# Altium footprint library 2019-03-18_22-33-59.PcbLib: 3 footprints
Each footprint in its own frame and in the unit in brackets; x right, y up, seen from the top. Pads: shape width x height; smd on the part's side, far side on the other; paste and mask are expansions set on the pad; w line width, h text height; cw(c..) or ccw(c..) is an arc to the next point about the centre after c.
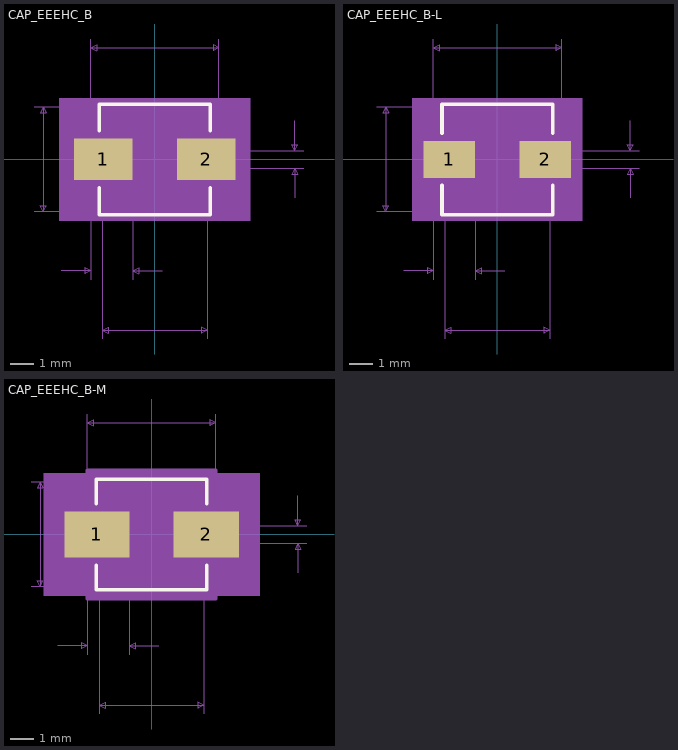
[diagram p0: the footprints below, top view; thin cyan lines are the x and y axes]

## CAP_EEEHC_B [mil]
pads (2):
  rect 99x70 smd paste+0 mask+0: 1(-87,0) 2(87,0)
Top Overlay:
  lines w6: -93.5,-48.1 -93.5,-93.5 93.5,-93.5 93.5,-48.1 ; -93.5,48.1 -93.5,93.5 93.5,93.5 93.5,48.1
Mechanical 5:
  region: 161.5,-103.5 -161.5,-103.5 -161.5,103.5 161.5,103.5
Mechanical 7:
  lines w1: -203.5,-88.5 -88.5,-88.5 -88.5,-303.5 ; -203.5,88.5 -88.5,88.5 ; -158.5,-188.5 -108.5,-188.5 ; -108.5,-203.5 -108.5,-45 ; -108.5,45 -108.5,203.5 ; -37.5,-203.5 -37.5,-25 ; 12.5,-188.5 -37.5,-188.5 ; 88.5,-303.5 88.5,-88.5 ; 108.5,45 108.5,203.5 ; 146.5,-15 251.5,-15 ; 146.5,15 251.5,15 ; 236.5,-65 236.5,-15 ; 236.5,65 236.5,15 ; -188.5,-88.5 -188.5,88.5 ; -188.5,-88.5 -193.5,-78.5 -183.5,-78.5 -188.5,-88.5 ; -188.5,88.5 -193.5,78.5 -183.5,78.5 -188.5,88.5 ; -108.5,-188.5 -118.5,-183.5 -118.5,-193.5 -108.5,-188.5 ; -108.5,188.5 108.5,188.5 ; -108.5,188.5 -98.5,193.5 -98.5,183.5 -108.5,188.5 ; -88.5,-288.5 88.5,-288.5 ; -88.5,-288.5 -78.5,-283.5 -78.5,-293.5 -88.5,-288.5 ; -37.5,-188.5 -27.5,-183.5 -27.5,-193.5 -37.5,-188.5 ; 88.5,-288.5 78.5,-283.5 78.5,-293.5 88.5,-288.5 ; 108.5,188.5 98.5,193.5 98.5,183.5 108.5,188.5 ; 236.5,-15 231.5,-25 241.5,-25 236.5,-15 ; 236.5,15 231.5,25 241.5,25 236.5,15
  text "Default Padstyle: r251_178" at -325,-440 h50
  text "Alternate 1 Padstyle: b152_229h76" at -412.5,-540 h50
  text "Alternate 2 Padstyle: b229_152h76" at -412.5,-640 h50
  text "0.03in/0.762mm" at 256.5,-12.5 h25
  text "0.217in/5.512mm" at -93.75,208.5 h25
  text "0.177in/4.496mm" at -396,-12.5 h25
  text "0.071in/1.803mm" at -166.75,-233.5 h25
  text "0.177in/4.496mm" at -93.75,-333.5 h25
Mechanical 13:
  lines w1: -88.5,-44.25 -44.25,-88.5 ; -88.5,44.25 -44.25,88.5 ; -88.5,-88.5 88.5,-88.5 88.5,88.5 -88.5,88.5 -88.5,-88.5
Mechanical 15:
  region: -98.5,-45 -146.5,-45 -146.5,45 -98.5,45 -98.5,98.5 98.5,98.5 98.5,45 146.5,45 146.5,-45 98.5,-45 98.5,-98.5 -98.5,-98.5
  lines w6: -146.5,-45 -146.5,45 -98.5,45 -98.5,98.5 98.5,98.5 98.5,45 146.5,45 146.5,-45 98.5,-45 98.5,-98.5 -98.5,-98.5 -98.5,-45 -146.5,-45
3D body: height 10, standoff 0, extent 0,0 10,10

## CAP_EEEHC_B-L [mil]
pads (2):
  rect 87x62 smd paste+0 mask+0: 1(-81,0) 2(81,0)
Top Overlay:
  lines w6: -93.5,-44.1 -93.5,-93.5 93.5,-93.5 93.5,-44.1 ; -93.5,44.1 -93.5,93.5 93.5,93.5 93.5,44.1
Mechanical 5:
  region: 143.5,-103.5 -143.5,-103.5 -143.5,103.5 143.5,103.5
Mechanical 7:
  lines w1: -203.5,-88.5 -88.5,-88.5 -88.5,-303.5 ; -203.5,88.5 -88.5,88.5 ; -158.5,-188.5 -108.5,-188.5 ; -108.5,-203.5 -108.5,-41 ; -108.5,41 -108.5,203.5 ; -37.5,-203.5 -37.5,-21 ; 12.5,-188.5 -37.5,-188.5 ; 88.5,-303.5 88.5,-88.5 ; 108.5,41 108.5,203.5 ; 134.5,-15 239.5,-15 ; 134.5,15 239.5,15 ; 224.5,-65 224.5,-15 ; 224.5,65 224.5,15 ; -188.5,-88.5 -188.5,88.5 ; -188.5,-88.5 -193.5,-78.5 -183.5,-78.5 -188.5,-88.5 ; -188.5,88.5 -193.5,78.5 -183.5,78.5 -188.5,88.5 ; -108.5,-188.5 -118.5,-183.5 -118.5,-193.5 -108.5,-188.5 ; -108.5,188.5 108.5,188.5 ; -108.5,188.5 -98.5,193.5 -98.5,183.5 -108.5,188.5 ; -88.5,-288.5 88.5,-288.5 ; -88.5,-288.5 -78.5,-283.5 -78.5,-293.5 -88.5,-288.5 ; -37.5,-188.5 -27.5,-183.5 -27.5,-193.5 -37.5,-188.5 ; 88.5,-288.5 78.5,-283.5 78.5,-293.5 88.5,-288.5 ; 108.5,188.5 98.5,193.5 98.5,183.5 108.5,188.5 ; 224.5,-15 219.5,-25 229.5,-25 224.5,-15 ; 224.5,15 219.5,25 229.5,25 224.5,15
  text "Default Padstyle: r221_157" at -325,-444 h50
  text "Alternate 1 Padstyle: b152_229h76" at -412.5,-544 h50
  text "Alternate 2 Padstyle: b229_152h76" at -412.5,-644 h50
  text "0.03in/0.762mm" at 244.5,-12.5 h25
  text "0.217in/5.512mm" at -93.75,208.5 h25
  text "0.177in/4.496mm" at -396,-12.5 h25
  text "0.071in/1.803mm" at -166.75,-233.5 h25
  text "0.177in/4.496mm" at -93.75,-333.5 h25
Mechanical 13:
  lines w1: -88.5,-44.25 -44.25,-88.5 ; -88.5,44.25 -44.25,88.5 ; -88.5,-88.5 88.5,-88.5 88.5,88.5 -88.5,88.5 -88.5,-88.5
Mechanical 15:
  region: -92.5,-35 -128.5,-35 -128.5,35 -92.5,35 -92.5,92.5 92.5,92.5 92.5,35 128.5,35 128.5,-35 92.5,-35 92.5,-92.5 -92.5,-92.5
  lines w6: -128.5,-35 -128.5,35 -92.5,35 -92.5,92.5 92.5,92.5 92.5,35 128.5,35 128.5,-35 92.5,-35 92.5,-92.5 -92.5,-92.5 -92.5,-35 -128.5,-35
3D body: height 10, standoff 0, extent 0,0 10,10

## CAP_EEEHC_B-M [mil]
pads (2):
  rect 110x78 smd paste+0 mask+0: 1(-92.5,0) 2(92.5,0)
Top Overlay:
  lines w6: -93.5,-52.1 -93.5,-93.5 93.5,-93.5 93.5,-52.1 ; -93.5,52.1 -93.5,93.5 93.5,93.5 93.5,52.1
Mechanical 5:
  region: 182.5,-103.5 -182.5,-103.5 -182.5,103.5 182.5,103.5
Mechanical 7:
  lines w1: -203.5,-88.5 -88.5,-88.5 -88.5,-303.5 ; -203.5,88.5 -88.5,88.5 ; -158.5,-188.5 -108.5,-188.5 ; -108.5,-203.5 -108.5,-49 ; -108.5,49 -108.5,203.5 ; -37.5,-203.5 -37.5,-29 ; 12.5,-188.5 -37.5,-188.5 ; 88.5,-303.5 88.5,-88.5 ; 108.5,49 108.5,203.5 ; 157.5,-15 262.5,-15 ; 157.5,15 262.5,15 ; 247.5,-65 247.5,-15 ; 247.5,65 247.5,15 ; -188.5,-88.5 -188.5,88.5 ; -188.5,-88.5 -193.5,-78.5 -183.5,-78.5 -188.5,-88.5 ; -188.5,88.5 -193.5,78.5 -183.5,78.5 -188.5,88.5 ; -108.5,-188.5 -118.5,-183.5 -118.5,-193.5 -108.5,-188.5 ; -108.5,188.5 108.5,188.5 ; -108.5,188.5 -98.5,193.5 -98.5,183.5 -108.5,188.5 ; -88.5,-288.5 88.5,-288.5 ; -88.5,-288.5 -78.5,-283.5 -78.5,-293.5 -88.5,-288.5 ; -37.5,-188.5 -27.5,-183.5 -27.5,-193.5 -37.5,-188.5 ; 88.5,-288.5 78.5,-283.5 78.5,-293.5 88.5,-288.5 ; 108.5,188.5 98.5,193.5 98.5,183.5 108.5,188.5 ; 247.5,-15 242.5,-25 252.5,-25 247.5,-15 ; 247.5,15 242.5,25 252.5,25 247.5,15
  text "Default Padstyle: r279_198" at -325,-436 h50
  text "Alternate 1 Padstyle: b152_229h76" at -412.5,-536 h50
  text "Alternate 2 Padstyle: b229_152h76" at -412.5,-636 h50
  text "0.03in/0.762mm" at 267.5,-12.5 h25
  text "0.217in/5.512mm" at -93.75,208.5 h25
  text "0.177in/4.496mm" at -396,-12.5 h25
  text "0.071in/1.803mm" at -166.75,-233.5 h25
  text "0.177in/4.496mm" at -93.75,-333.5 h25
Mechanical 13:
  lines w1: -88.5,-44.25 -44.25,-88.5 ; -88.5,44.25 -44.25,88.5 ; -88.5,-88.5 88.5,-88.5 88.5,88.5 -88.5,88.5 -88.5,-88.5
Mechanical 15:
  region: -108.5,-59 -167.5,-59 -167.5,59 -108.5,59 -108.5,108.5 108.5,108.5 108.5,59 167.5,59 167.5,-59 108.5,-59 108.5,-108.5 -108.5,-108.5
  lines w6: -167.5,-59 -167.5,59 -108.5,59 -108.5,108.5 108.5,108.5 108.5,59 167.5,59 167.5,-59 108.5,-59 108.5,-108.5 -108.5,-108.5 -108.5,-59 -167.5,-59
3D body: height 10, standoff 0, extent 0,0 10,10